# Altium footprint library WURTH_744824101.PcbLib: 1 footprints
Each footprint in its own frame and in the unit in brackets; x right, y up, seen from the top. Pads: shape width x height; smd on the part's side, far side on the other; paste and mask are expansions set on the pad; w line width, h text height; cw(c..) or ccw(c..) is an arc to the next point about the centre after c.
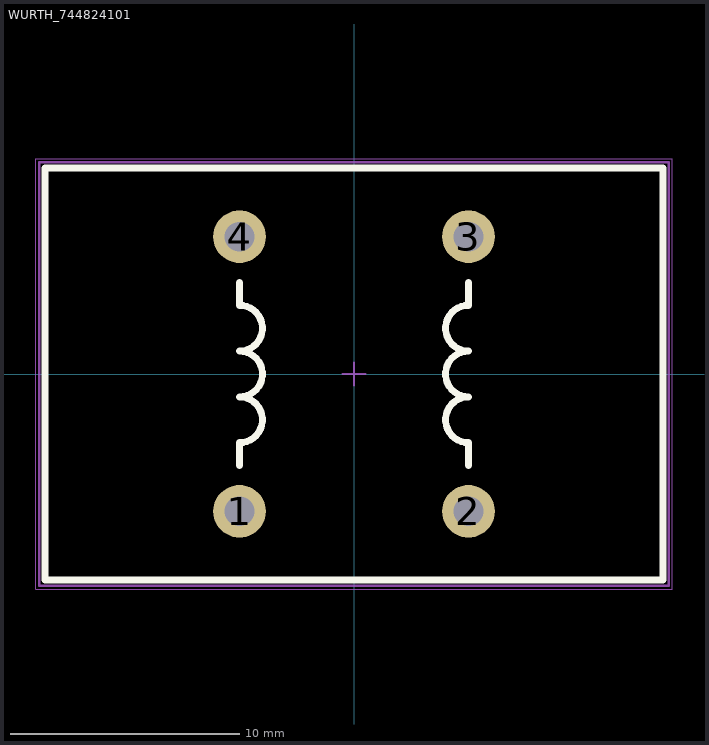
[diagram p0: the footprint, top view; thin cyan lines are the x and y axes]

## WURTH_744824101 [mm] "WURTH_744824101"
height 33
pads (4):
  round 2.3 hole 1.3 mask+0.05: 1(-5,-6) 2(5,-6) 3(5,6) 4(-5,6)
Top Overlay:
  lines w0.3: -5,-4 -5,-3 ccw(c-5,-2) -5,-1 ccw(c-5,0) -5,1 ccw(c-5,2) -5,3 -5,4 ; 5,-4 5,-3 cw(c5,-2) 5,-1 cw(c5,0) 5,1 cw(c5,2) 5,3 5,4 ; -13.5,-9 13.5,-9 13.5,9 -13.5,9 -13.5,-9
Mechanical 13:
  lines w0.1: -13.75,-9.25 -13.75,9.25 13.75,9.25 13.75,-9.25 -13.75,-9.25
Mechanical 15:
  lines w0.05: -13.9,-9.4 -13.9,9.4 13.9,9.4 13.9,-9.4 -13.9,-9.4
  lines w0.1: -0.5,0 0.5,0 ; 0,-0.5 0,0.5
3D body "WURTH_744824101.stp": height 29.08, standoff -5, extent -12.403,-8.5 12.403,8.534